# EAGLE library part MD2-60ST-SMT (library OrlandoRonMod)
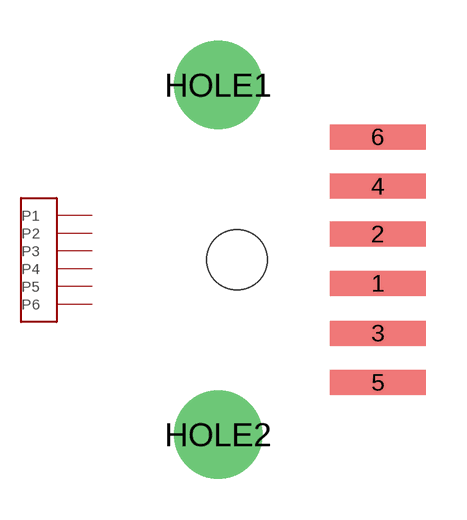
[diagram p16: symbol with the pads of DIN6; footprint DIN6]

Designator prefix -

## MD2-60ST-SMT  [DIN6]
1  P1
2  P2
3  P3
4  P4
5  P5
6  P6

## Footprint DIN6 (pad centres in mm)
smd 3.505 x 0.914: 1 5.156,-0.864; 2 5.156,0.94; 3 5.156,-2.692; 4 5.156,2.692; 5 5.156,-4.496; 6 5.156,4.496
drill 2.21: HOLE1 -0.686,6.401; HOLE2 -0.686,-6.401
hole 2.21 at 0,0